# Altium footprint library PowerDI5060.PcbLib: 1 footprints
Each footprint in its own frame and in the unit in brackets; x right, y up, seen from the top. Pads: shape width x height; smd on the part's side, far side on the other; paste and mask are expansions set on the pad; w line width, h text height; cw(c..) or ccw(c..) is an arc to the next point about the centre after c.
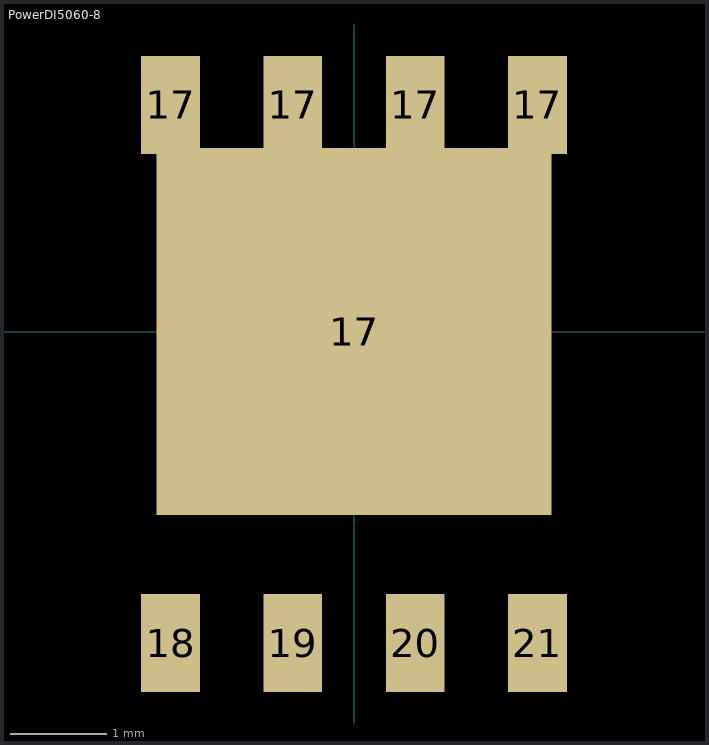
[diagram p0: the footprint, top view; thin cyan lines are the x and y axes]

## PowerDI5060-8 [mm]
pads (9):
  rect 0.61x1.02 smd: 17(-1.905,2.355) 17(-0.635,2.355) 17(0.635,2.355) 17(1.905,2.355) 18(-1.905,-3.235) 19(-0.635,-3.235) 20(0.635,-3.235) 21(1.905,-3.235)
  rect 4.1x3.81 smd: 17(0,0)
3D body: height 1.1, standoff 0, extent -2.536,-3.462 2.569,2.544